# Altium schematic symbol library B1047AS-331M=P3.SchLib: 1 symbol
Pins are listed as number, name and electrical type; pins without a type are passive.

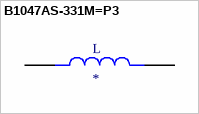
[diagram p0: symbol B1047AS-331M=P3]

## B1047AS-331M=P3
designator L
Inductor with Inductance: 330uH Tol. +/-20%, Package: 2929 (7373); MF: Murata; MP: B1047AS-331M=P3; Availability: Unavailable; Value: *; Arrow_Electronics-Purchase-URL: https://snapeda.com/shop?store=Arrow+Electronics&id=1412841; Price: None; Mouser-Purchase-URL: https://snapeda.com/shop?store=Mouser&id=1412841; SnapEDA_Link: https://www.snapeda.com/parts/B1047AS-331M=P3/Murata/view-part/1412841/?ref=snap; Package: NONSTANDARD
footprint IND_B1047AS-331M=P3
pins: 1, 2